# EAGLE library part 61300621821 (library Wuerth_Elektronik_eiCan_Pin_&_Socked_Headers_v1.3)
WR-PHD 2.54mm Dual Socket Header, 6 Pins
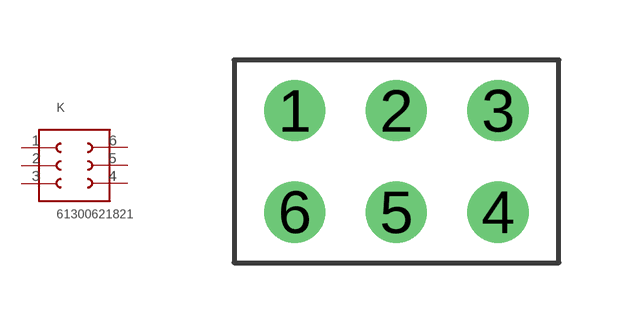
[diagram p127: symbol with the pads of 61300621821; footprint 61300621821]

Designator prefix K

## 61300621821  [61300621821]
1  1  pas
2  2  pas
3  3  pas
4  4  pas
5  5  pas
6  6  pas

## Footprint 61300621821 (pad centres in mm)
WR-PHD 2.54mm Dual Socket Header, 6 Pins
drill 1.02 round: 1 -2.54,1.27; 2 0,1.27; 3 2.54,1.27; 4 2.54,-1.27; 5 0,-1.27; 6 -2.54,-1.27